# EAGLE library part 418311270808 (library Wurth_Elektronik_Electromechanic_Switch_rev15d)
WS-PT 2.54 mm piano type compact SMD Dip Switch with raised actuator, 8 Pole
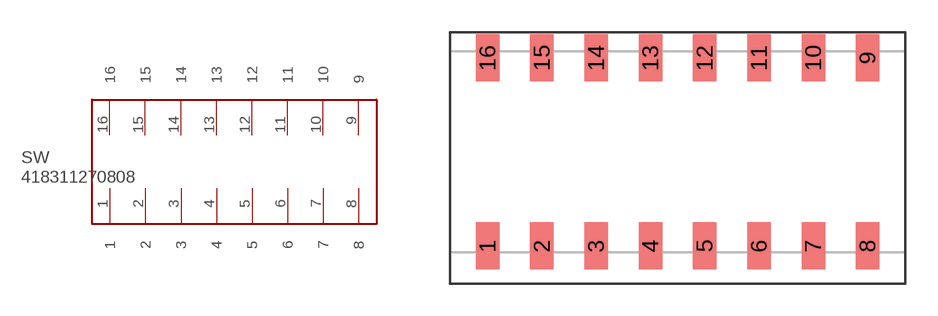
[diagram p123: symbol with the pads of 418311270808; footprint 418311270808]

Designator prefix SW

## 418311270808  [418311270808]
1  1
2  2
3  3
4  4
5  5
6  6
7  7
8  8
9  9
10  10
11  11
12  12
13  13
14  14
15  15
16  16

## Footprint 418311270808 (pad centres in mm)
WS-PT 2.54 mm piano type compact SMD Dip Switch with raised actuator, 8 Pole
smd 1.1 x 2.2: 1 -8.89,-4.4; 2 -6.35,-4.4; 3 -3.81,-4.4; 4 -1.27,-4.4; 5 1.27,-4.4; 6 3.81,-4.4; 7 6.35,-4.4; 8 8.89,-4.4; 9 8.89,4.4; 10 6.35,4.4; 11 3.81,4.4; 12 1.27,4.4; 13 -1.27,4.4; 14 -3.81,4.4; 15 -6.35,4.4; 16 -8.89,4.4